# EAGLE library part LOLIN_LOLINV3 (library luftdaten_v1r1)
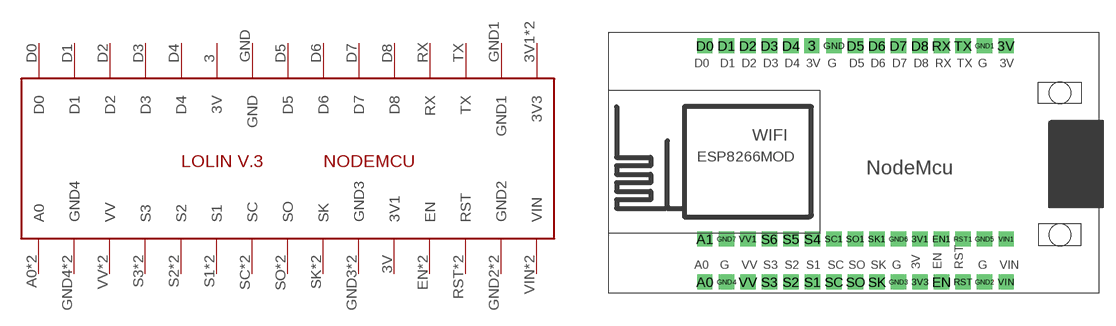
[diagram p0: symbol with the pads of LOLIN_LOLINV3; footprint LOLIN_LOLINV3]

Designator prefix IC

## LOLIN_LOLINV3  [LOLIN_LOLINV3]
3  3V
3V  3V1
3V1  3V3
3V3  3V3
A0  A0
A1  A0
D0  D0
D1  D1
D2  D2
D3  D3
D4  D4
D5  D5
D6  D6
D7  D7
D8  D8
EN  EN
EN1  EN
GND  GND
GND1  GND1
GND2  GND2
GND3  GND3
GND4  GND4
GND5  GND2
GND6  GND3
GND7  GND4
RST  RST
RST1  RST
RX  RX
S1  S1
S2  S2
S3  S3
S4  S1
S5  S2
S6  S3
SC  SC
SC1  SC
SK  SK
SK1  SK
SO  SO
SO1  SO
TX  TX
VIN  VIN
VIN1  VIN
VV  VV
VV1  VV

## Footprint LOLIN_LOLINV3 (pad centres in mm)
drill 0.8 pad 1.778 square: 3 24.03,29.21; 3V 46.99,29.21; 3V1 36.83,6.35; 3V3 36.83,1.27; A0 11.43,1.27; A1 11.43,6.35; D0 11.43,29.21; D1 13.97,29.21; D2 16.51,29.21; D3 19.05,29.21; D4 21.59,29.21; D5 29.21,29.21; D6 31.75,29.21; D7 34.29,29.21; D8 36.83,29.21; EN 39.37,1.27; EN1 39.37,6.35; GND 26.67,29.21; GND1 44.45,29.21; GND2 44.45,1.27; GND3 34.29,1.27; GND4 13.97,1.27; GND5 44.45,6.35; GND6 34.29,6.35; GND7 13.97,6.35; RST 41.91,1.27; RST1 41.91,6.35; RX 39.37,29.21; S1 24.13,1.27; S2 21.59,1.27; S3 19.05,1.27; S4 24.13,6.35; S5 21.59,6.35; S6 19.05,6.35; SC 26.67,1.27; SC1 26.67,6.35; SK 31.75,1.27; SK1 31.75,6.35; SO 29.21,1.27; SO1 29.21,6.35; TX 41.91,29.21; VIN 46.99,1.27; VIN1 46.99,6.35; VV 16.51,1.27; VV1 16.51,6.35